# EAGLE library part 653007114822 (library Wuerth_Elektronik_eiCan_Wire_to_Board_Connectors)
WR-WTB 1.25mm Male Vertical Shrouded Header, 7 Pins=>Code : Con_WTB_1.25_PCB_THT_653007114822 <http://katalog.we-online.de/media/thumbs2/eican/thb_Con_WTB_1.25_PCB_THT_6530xx114822_pf2.jpg> Details see: http://katalog.we-online.de/en/em/653_0xx_114_822 Created 2014-06-06, Karrer Zheng 2014 (C) Würth Elektronik
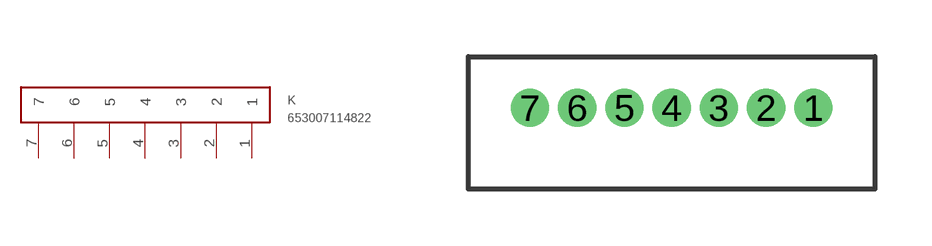
[diagram p82: symbol with the pads of 653007114822; footprint 653007114822]

Designator prefix K

## 653007114822  [653007114822]
1  1
2  2
3  3
4  4
5  5
6  6
7  7

## Footprint 653007114822 (pad centres in mm)
WR-WTB 1.25mm Male Vertical Shrouded Header, 7 Pins
drill 0.5: 1 0.625,0; 2 -0.625,0; 3 -1.875,0; 4 -3.125,0; 5 -4.375,0; 6 -5.625,0; 7 -6.875,0